# Altium schematic symbol library SF16_POWER.SchLib: 39 symbols
Pins are listed as number, name and electrical type; pins without a type are passive.

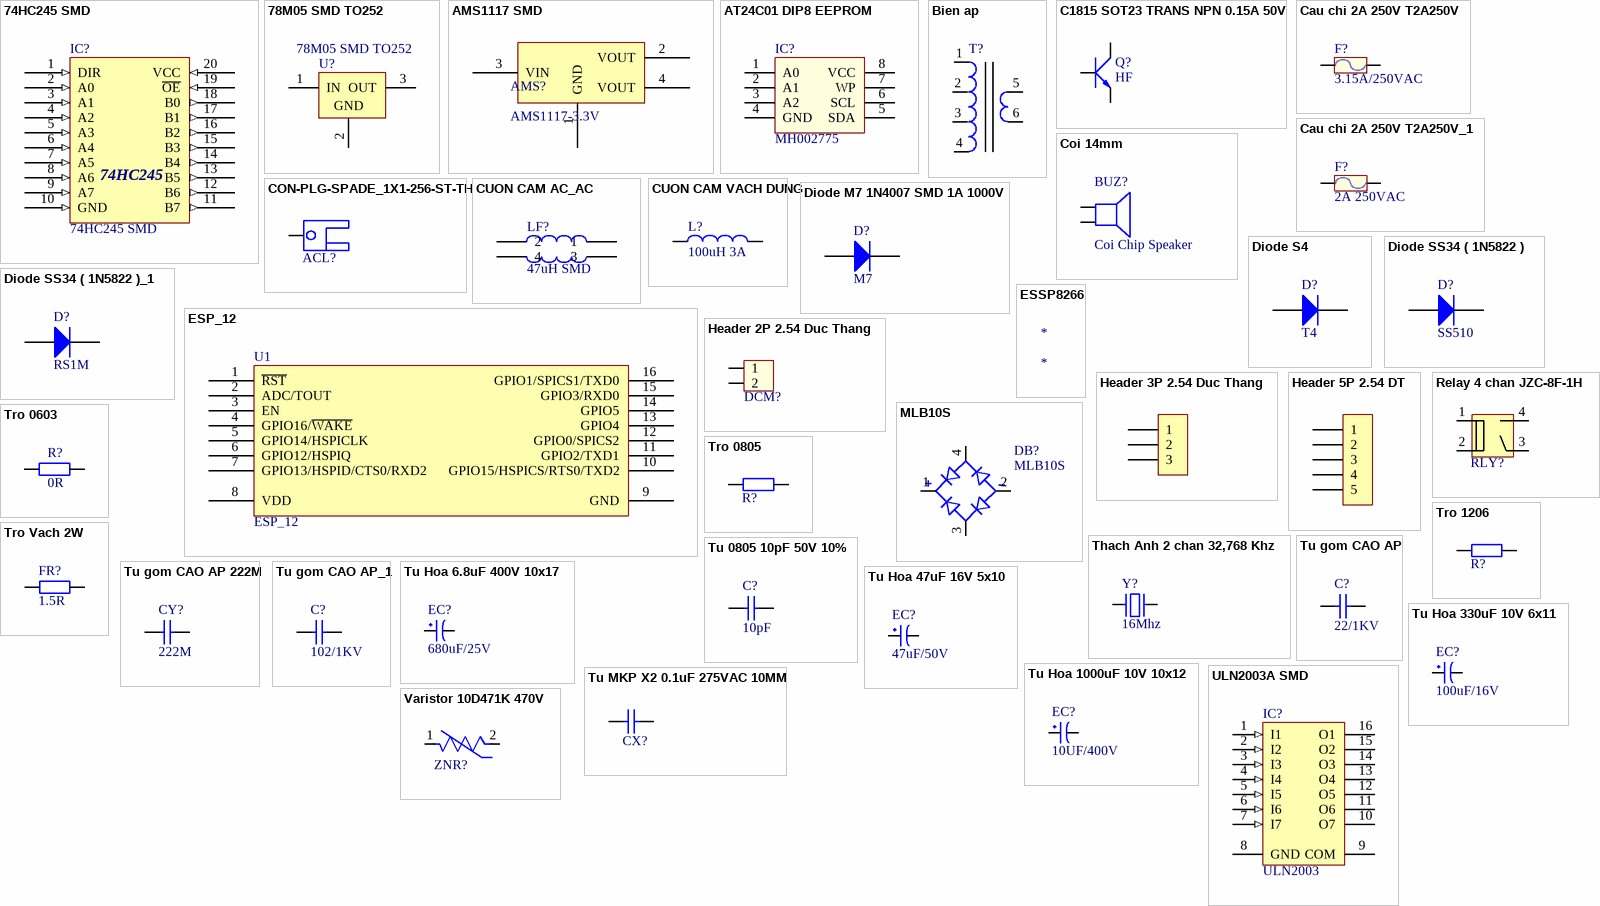
[diagram p0: symbols 74HC245 SMD to Varistor 10D471K 470V]

## 74HC245 SMD
designator IC?
Dán; Ten_Linh_Kien: 74HC245DW SSOP20 5.2MM; Don_Vi: Con; Ma_Hang: MH003571; Ghi_Chu: *; Kieu_Chan: *; Chung_Loai: Dán
footprint SOP 20 (SOIC, 20-Leads, Body 12.60x7.50mm, Pitch 1.27mm, IPC Medium Density)
pins: 1 DIR (in), 2 A0 (in), 3 A1 (in), 4 A2 (in), 5 A3 (in), 6 A4 (in), 7 A5 (in), 8 A6 (in), 9 A7 (in), 10 GND (in), 11 B7 (out), 12 B6 (out), 13 B5 (out), 14 B4 (out), 15 B3 (out), 16 B2 (out), 17 B1 (out), 18 B0 (out), 19 ~{OE} (in), 20 VCC (in)
text: 74HC245

## 78M05 SMD TO252
designator U?
Dán; Don_Vi: Con; Ten_Linh_Kien: 78M05 TO252; Ma_Hang: MH001917; Ghi_Chu: *; Kieu_Chan: *; Chung_Loai: Dán
footprint TO252
pins: 1 IN (power), 2 GND (power), 3 OUT (power)

## AMS1117 SMD
designator AMS?, comment AMS1117-3.3V
Dán; Value: AMS1117-3.3V SOT223; Don_Vi: Con; Ma_Hang: MH000596; Ghi_Chu: *; Kieu_Chan: *; Chung_Loai: Dán
footprint SOT223
pins: 1 GND, 2 VOUT, 3 VIN, 4 VOUT

## AT24C01 DIP8 EEPROM
designator IC?, comment MH002775
Cắm; Ten_Linh_Kien: AT24C01 DIP8 EEPROM 1KBIT; Don_Vi: Con; Kieu_Chan: *; Ghi_Chu: *; Ma_Hang: MH002775; Chung_Loai: Cắm
footprint DIP8 (W.300/L.400)
pins: 1 A0, 2 A1, 3 A2, 4 GND (power), 5 SDA, 6 SCL, 7 WP, 8 VCC (power)

## Bien ap
designator T?  (value not drawn)
Cắm
footprint BIEN AP EE1610-12V1.1A
pins: 1 4, 2 4, 3 4, 4, 5 4, 6 5

## C1815 SOT23 TRANS NPN 0.15A 50V
designator Q?, comment HF
Cắm; Value: C9014
footprint SOT-23 (Footprint not found)
pins: 1 B, 2 E, 3 C

## Cau chi 2A 250V T2A250V
designator F?, comment 3.15A/250VAC
Cắm; Ma_Hang: MH010033; Ten: Cầu Chì Tự Phục Hồi 2A 24V SMD1812
footprint Cau chi 2A 250V T2A250V
footprint Cau Chi 250V (De Fuse)
pins: 1, 2

## Cau chi 2A 250V T2A250V_1
designator F?, comment 2A 250VAC
Cắm; Ma_Hang: MH010033; Ten: Cầu Chì Tự Phục Hồi 2A 24V SMD1812
footprint Cau chi 2A 250V T2A250V
pins: 1, 2

## Coi 14mm
designator BUZ?, comment Coi Chip Speaker
Còi chip
footprint Coi 14mm
pins: 1, 2

## CON-PLG-SPADE_1X1-256-ST-TH
designator ACL?, comment 1217861-1  (value not drawn)
1 Pins, 1 Row 256mil Pitch, Straight, Male; Manufacturer: TE Connectivity; Mating Part Number: 2-520183-2; Alternate Part Number-1: NA; Manufacturer Part Number: 1217861-1; Case/Package: TH-CON; Supplier-1: ARROW; Supplier Part Number-1: 1217861-1
footprint CON1_P192_70D137_TH_ST (SOLDER TABS)
pins: 1

## CUON CAM AC_AC
designator LF?, comment 47uH SMD
Cắm; Don_Vi: Con; Chung_Loai: Dán; Ma_Hang: MH004211; Ten_Linh_Kien: Cuộn Cảm 47uH 7x7x4MM CD74R; Ghi_Chu: *; Kieu_Chan: *
footprint Cuon Cam AC-AC (Cuon Cam 4.5x5)
pins: 1, 2, 3, 4

## CUON CAM VACH DUNG
designator L?, comment 100uH 3A
Cắm; Chung_Loai: Dán; Don_Vi: Con; Ma_Hang: MH002209; Ten_Linh_Kien: Cuộn Cảm 100uH 3A 8x10MM; Ghi Chu: *; Kieu Chan: *
footprint CUON CAM (Dang cam giong tro)
footprint CUON CAM - duplicate (Dang cam giong tro)
pins: 1, 2

## Diode M7 1N4007 SMD 1A 1000V
designator D?, comment M7
Dán; Don_Vi: Con; Ten_Linh_Kien: Diode M7 1N4007 SMD 1A 1000V; Ma_Hang: MH000944; Chung_Loai: Dán; Ghi_Chu: *
footprint DIODE SMA (SMA)
pins: 1 A, 2 K

## Diode S4
designator D?, comment T4
Dán; Ten_Linh_Kien: Diode S4 SOD123 ( 1N5819 SOD123); Ma_Hang: MH005519; Don_Vi: Con; Ghi_Chu: *; Chung_Loai: Dán; Kieu_Chan: *
footprint DIODE SOD-123 (SOD-123)
pins: 1 A, 2 K

## Diode SS34 ( 1N5822 )
designator D?, comment SS510
Dán; Don_Vi: Con; Ma_Hang: MH002104; Ten_Linh_Kien: Diode SS34 3A 40V SMA ( 1N5822 SS34A); Kieu_Chan: *; Chung_Loai: Dán
footprint DIODE SMA (SMA)
pins: 1 A, 2 K

## Diode SS34 ( 1N5822 )_1
designator D?, comment RS1M
Dán; Don_Vi: Con; Ma_Hang: MH002104; Ten_Linh_Kien: Diode SS34 3A 40V SMA ( 1N5822 SS34A); Kieu_Chan: *; Chung_Loai: Dán
footprint DIODE SMA (SMA)
pins: 1 A, 2 K

## ESP_12
designator U1
ESP-12 Wi-Fi Module by AI-Thinker; IC: ESP8266-EX; Vendor: Ai-thinker
footprint ESP_12 (ESP-12 Wi-Fi Module by AI-Thinker)
pins: 1 ~{RST} "Reset", 2 ADC/TOUT "ADC Input Or TOUT Output", 3 EN "Chip enable", 4 GPIO16/~{WAKE} "GPIO16 or Deep-Sleep Wakeup", 5 GPIO14/HSPICLK "GPIO14 or SPI CLK", 6 GPIO12/HSPIQ "GPIO12 or SPIQ", 7 GPIO13/HSPID/CTS0/RXD2 "GPIO13 or SPID", 8 VDD "Power supply", 9 GND "Power ground", 10 GPIO15/HSPICS/RTS0/TXD2 "GPIO15 or SPICS", 11 GPIO2/TXD1 "GPIO2 or TX", 12 GPIO0/SPICS2 "GPIO0 or SPICS2", 13 GPIO4 "GPIO5", 14 GPIO5 "GPIO4", 15 GPIO3/RXD0 "GPIO3 or UART RXD", 16 GPIO1/SPICS1/TXD0 "GPIO1 or UART TXD"

## ESSP8266
designator *

## Header 2P 2.54 Duc Thang
designator DCM?  (value not drawn)
Cắm; Ten_Linh_Kien: Header 2P XH2.54-2P Đực Thẳng; Don_Vi: Con; Ma_Hang: MH001283; Chung_Loai: Cắm
footprint XH2.54M-2
pins: 1, 2

## Header 3P 2.54 Duc Thang
designator H?
Cắm; Ten_Linh_Kien: Header 3P XH2.54-3P Đực Thẳng; Don_Vi: Con; Ma_Hang: MH001292; Chung_Loai: Cắm
footprint XH2.54M-3
pins: 1, 2, 3

## Header 5P 2.54 DT
designator H?  (value not drawn)
Cắm; Ten_Linh_Kien: Header 5P XH2.54-5P Đực Thẳng; Don_Vi: Con; Ma_Hang: MH001298; Chung_Loai: Cắm
footprint XH2.54M-5
pins: 1, 2, 3, 4, 5

## MLB10S
designator DB?
DÁN
footprint MBLS-1
pins: 1 POS, 2 NEG, 3 AC2, 4 AC1

## Relay 4 chan JZC-8F-1H
designator RLY?, comment Relay JZC-8F-1H  (value not drawn)
Cắm; Ten: Relay 5V5A HF46F-G 5-HS1; Ma_Hang: MH003879
footprint Relay 4 chan JZC-8F
pins: 1, 2, 3 AC/DC, 4 AC/DC

## Thach Anh 2 chan 32,768 Khz
designator Y?, comment 16Mhz
Cắm; Value: 4Mhz
footprint Thach Anh 2 Chan 32,768 KHz
pins: 1, 2

## Tro 0603
designator R?, comment 0R
Dán; Don_Vi: Con; So_Chan: 2; Ten_Linh_Kien: Trở 0603 1% 0R; Ma_Hang: MH005792; Chung_Loai: Dán; Kieu_Chan: *
footprint tro smd 0603 (Chip Capacitor, 2-Leads, Body 1,60x0,80mm, IPC Medium Density)
pins: 1, 2

## Tro 0805
designator R?, comment 0.22R  (value not drawn)
Dán; Don_Vi: Con; So_Chan: 2; Ten_Linh_Kien: Trở 0805 1% 0.22R; Ma_Hang: MH005466; Chung_Loai: Dán; Kieu_Chan: *
footprint tro smd 0805
pins: 1, 2

## Tro 1206
designator R?, comment 0.68R  (value not drawn)
Dán; Don_Vi: Con; Ma_Hang: MH008104; Ten_linh_Kien: Trở 1206 1% 0.68R; So_Chan: 2; Chung_Loai: Dán; Kieu_Chan: *
footprint tro smd 1206
pins: 1, 2

## Tro Vach 2W
designator FR?, comment 1.5R
Cắm; So_Chan: 2; Ten_Linh_Kien: Trở 1% 2w 1.5R; Don_Vi: Con; Ma_Hang: MH006312; Chung_Loai: Cắm; Kieu_Chan: *
footprint tro vach 2w
footprint TRO CAU CHI DUNG
pins: 1, 2

## Tu 0805 10pF 50V 10%
designator C?, comment 10pF
Dán; Don_Vi: Con; So_Chan: 2; Ten_Linh_Kien: Tụ 0805 10P 10% 50V; Ma_Hang: MH004554; Chung_Loai: Dán; Kieu_Chan: *
footprint tu 0805 (Compoment SMD 80x50mil)
pins: 1, 2

## Tu gom CAO AP
designator C?, comment 22/1KV
Cắm; Don_Vi: Con; So_Chan: 2; Ten_Linh_Kien: Tụ gốm 15P 50V; Ma_Hang: MH004767; Chung_Loai: Cắm; Kieu_Chan: *
footprint TU GOM CAO AP
pins: 1, 2

## Tu gom CAO AP 222M
designator CY?, comment 222M
Cắm; Don_Vi: Con; So_Chan: 2; Ten_Linh_Kien: Tụ gốm 15P 50V; Ma_Hang: MH004767; Chung_Loai: Cắm; Kieu_Chan: *
footprint TU GOM CAO AP 222M (TU GOM CAO AP)
pins: 1, 2

## Tu gom CAO AP_1
designator C?, comment 102/1KV
Cắm; Don_Vi: Con; So_Chan: 2; Ten_Linh_Kien: Tụ gốm 15P 50V; Ma_Hang: MH004767; Chung_Loai: Cắm; Kieu_Chan: *
footprint TU GOM CAO AP
pins: 1, 2

## Tu Hoa 6.8uF 400V 10x17
designator EC?, comment 680uF/25V
Cắm; Don_Vi: Con; So_Chan: 2; Ten_Linh_Kien: Tụ Hóa 6.8uF 400V 10x17MM; Ma_Hang: MH003745; Chung_Loai: Cắm; Kieu_Chan: *
footprint tu hoa 10mm
pins: 1, 2

## Tu Hoa 47uF 16V 5x10
designator EC?, comment 47uF/50V
Cắm; Don_Vi: Con; So_Chan: 2; Ten_Linh_Kien: Tụ Hóa 47uF 16V; Ma_Hang: MH006859; Chung_Loai: Cắm; Kieu_Chan: *
footprint tu hoa 5mm
pins: 1, 2

## Tu Hoa 330uF 10V 6x11
designator EC?, comment 100uF/16V
Cắm; Don_Vi: Con; So_Chan: 2; Ten_Linh_Kien: Tụ Hóa 330uF 10V 6x11MM; Ma_Hang: MH008830; Chung_Loai: Cắm; Kieu_Chan: *
footprint tu hoa 5mm
pins: 1, 2

## Tu Hoa 1000uF 10V 10x12
designator EC?, comment 10UF/400V
Cắm; So_Chan: 2; Don_Vi: Con; Ten_Linh_Kien: Tụ Hóa 1000uF 10V 10x12MM; Ma_Hang: MH006614; Kieu_Chan: *; Chung_Loai: Cắm
footprint tu hoa 10mm
pins: 1, 2

## Tu MKP X2 0.1uF 275VAC 10MM
designator CX?, comment 0.1  (value not drawn)
Cắm; Don_Vi: Con; So_Chan: 2; Ten_Linh_Kien: Tụ tantalum 224-0.22uF 50V DIP5.08 sứ vàng; Ma_Hang: MH007473; Chung_Loai: Cắm; Kieu_Chan: *
footprint Tu vuong 10mm (Tu gom mini)
pins: 1, 2

## ULN2003A SMD
designator IC?, comment ULN2003
Dán; Ten_Linh_Kien: ULN2003 SOP16; Don_Vi: Con; Ma_Hang: MH002408; Ghi_Chu: *; Chung_Loai: Dán; Kieu_Chan: *
footprint SOP 16 (SOIC, 16-Leads, Body 9.90x3.91mm, Pitch 1.27mm, IPC Medium Density)
pins: 1 I1 (in), 2 I2 (in), 3 I3 (in), 4 I4 (in), 5 I5 (in), 6 I6 (in), 7 I7 (in), 8 GND (power), 9 COM, 10 O7 (oc), 11 O6 (oc), 12 O5 (oc), 13 O4 (oc), 14 O3 (oc), 15 O2 (oc), 16 O1 (oc)

## Varistor 10D471K 470V
designator ZNR?, comment MOV-07D471KTR  (value not drawn)
Cam; Manufacturer: Bourns Inc.; Voltage Rating Ac: 300V; Varistor Voltage: 423V; Clamping Current: 10A; Voltage Rating Dc: 385V; Value: 126pF; Voltage Tolerance: 10%; Clamping Voltage: 775V; Package: 0; Octopart: https://octopart.com/mov-07d471ktr-bourns-19184728; Manufacturer Part Number: MOV-07D471KTR; Lead Free: Yes; RoHS: TRUE; Automotive: No; Device Class L2: Varistors; ComponentLink2URL: https://www.bourns.com/docs/product-datasheets/mov07d.pdf?sfvrsn=86ba81fd_26; Temperature Range Low: -40°C; Device Class L1: Circuit Protection; ComponentLink2Description: Datasheet; Device Class L3: unset; Temperature: -40°C to +105°C; Height: 11mm; Category: Res; Mouser Description: Varistors 105pF 470volts 10%; Temperature Range High: +105°C; Capacitance: 126pF; Digikey Description: VARISTOR 470V 1.2KA DISC 7MM
footprint Tu MOV - duplicate
footprint Tu MOV
pins: 1, 2